# EAGLE library part STF203 (library MyComponents)
USB EMI filtering and ESD protection
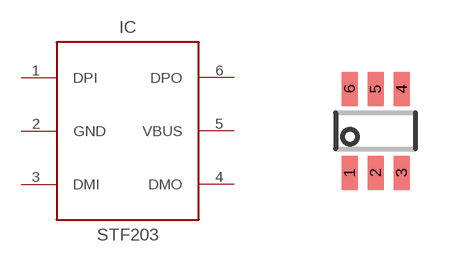
[diagram p4: symbol with the pads of SC70-6; footprint SC70-6]

Designator prefix IC

## STF203-22 (MOUSER: 947-STF203-22.TCT)  [SC70-6]
1  DPI
2  GND
3  DMI
4  DMO
5  VBUS
6  DPO

## Footprint SC70-6 (pad centres in mm)
SMT SC70-5 SOT353 - Philips Semiconductors Source: http://www.semiconductors.philips.com/acrobat_download/datasheets/74HC_HCT1G66_3.pdf
smd 0.4 x 0.85: 1 -0.65,-1.05; 2 0,-1.05; 3 0.65,-1.05; 4 0.65,1.05; 5 0,1.05; 6 -0.65,1.05